# EAGLE library part NHD-1.8-128160TF-CTXI (library BoneCapeParts)
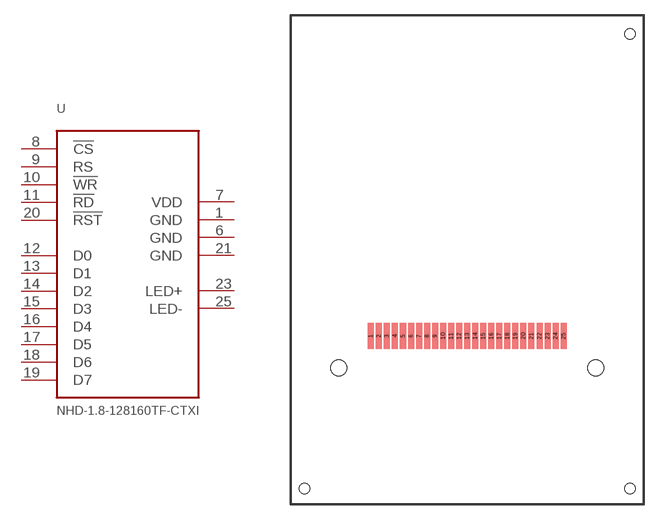
[diagram p13: symbol with the pads of NHD-1.8-128160TF-CTXI; footprint NHD-1.8-128160TF-CTXI]

Designator prefix -

## NHD-1.8-128160TF-CTXI  [NHD-1.8-128160TF-CTXI]
1  GND  sup
6  GND  sup
7  VDD  sup
8  !CS  in
9  RS  in
10  !WR  in
11  !RD  in
12  D0
13  D1
14  D2
15  D3
16  D4
17  D5
18  D6
19  D7
20  !RST  in
21  GND  sup
23  LED+  pas
25  LED-  pas

## Footprint NHD-1.8-128160TF-CTXI (pad centres in mm)
smd 0.6 x 2.6: 1 -9.6,15.2; 2 -8.8,15.2; 3 -8,15.2; 4 -7.2,15.2; 5 -6.4,15.2; 6 -5.6,15.2; 7 -4.8,15.2; 8 -4,15.2; 9 -3.2,15.2; 10 -2.4,15.2; 11 -1.6,15.2; 12 -0.8,15.2; 13 0,15.2; 14 0.8,15.2; 15 1.6,15.2; 16 2.4,15.2; 17 3.2,15.2; 18 4,15.2; 19 4.8,15.2; 20 5.6,15.2; 21 6.4,15.2; 22 7.2,15.2; 23 8,15.2; 24 8.8,15.2; 25 9.6,15.2
hole 1.6 at -12.8,12
hole 1.6 at 12.8,12
hole 1.05 at 16.2,45.3
hole 1.05 at -16.2,0
hole 1.05 at 16.2,0